# Altium schematic symbol library current_sense.SchLib: 2 symbols
Pins are listed as number, name and electrical type; pins without a type are passive.

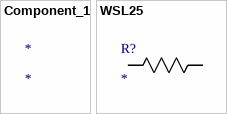
[diagram p0: symbols Component_1 to WSL25]

## Component_1
designator *

## WSL25
designator R?
Imported; Manufacturer_Part_Number: WSL25121L000FEA; Vendor: Vishay; Built_By: EMA_UL_Team; C: Copyright (C) 2015 Accelerated Designs. All rights reserved; RefDes: RefDes; Type: DEV; Value: Value
footprint RES_2512_WSL
pins: 1, 2